# EAGLE library part FT2232D-REEL (library NetGeeks)
Dual Ch. IC UART/FIFO/JTAG/SPI/I2C Reel FTDI Chip FT2232D-REEL, USB Controller, 4-channel, 3MBd, USB 1.1, USB 2.0, 5 V, 48-Pin LQFP Source: Datasheet <https://componentsearchengine.com/Datasheets/2/FT2232D-REEL.pdf>
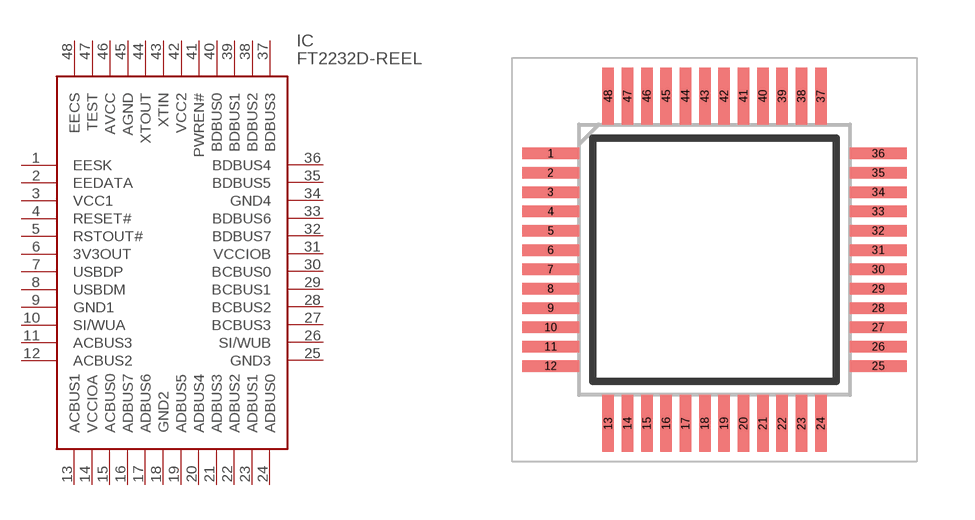
[diagram p6: symbol with the pads of QFP50P900X900X160-48N; footprint QFP50P900X900X160-48N]

Designator prefix IC

## FT2232D-REEL (Allied_Number: 70403918; Allied_Price/Stock: https://www.alliedelec.com/ftdi-ft2232d-reel/70403918/; Arrow_Part_Number: FT2232D-REEL; Arrow_Price/Stock: http://www.arrow.com/en/products/ft2232d-reel/future-technology-devices-international; Description: Dual Ch. IC UART/FIFO/JTAG/SPI/I2C Reel FTDI Chip FT2232D-REEL, USB Controller, 4-channel, 3MBd, USB 1.1, USB 2.0, 5 V, 48-Pin LQFP; Height: 1.6mm; Manufacturer_Name: FTDI Chip; Manufacturer_Part_Number: FT2232D-REEL; RS_Part_Number: 8888707; RS_Price/Stock: http://uk.rs-online.com/web/p/products/8888707)  [QFP50P900X900X160-48N]
1  EESK  out
2  EEDATA
3  VCC1  pwr
4  RESET#  in
5  RSTOUT#  out
6  3V3OUT  out
7  USBDP
8  USBDM
9  GND1  pwr
10  SI/WUA
11  ACBUS3
12  ACBUS2
13  ACBUS1
14  VCCIOA  pwr
15  ACBUS0
16  ADBUS7
17  ADBUS6
18  GND2  pwr
19  ADBUS5
20  ADBUS4
21  ADBUS3
22  ADBUS2
23  ADBUS1
24  ADBUS0
25  GND3  pwr
26  SI/WUB
27  BCBUS3
28  BCBUS2
29  BCBUS1
30  BCBUS0
31  VCCIOB  pwr
32  BDBUS7
33  BDBUS6
34  GND4  pwr
35  BDBUS5
36  BDBUS4
37  BDBUS3
38  BDBUS2
39  BDBUS1
40  BDBUS0
41  PWREN#  out
42  VCC2  pwr
43  XTIN  in
44  XTOUT  out
45  AGND  pwr
46  AVCC  pwr
47  TEST  in
48  EECS

## Footprint QFP50P900X900X160-48N (pad centres in mm)
48LD Lead Free LQFP
smd 1.475 x 0.3: 1 -4.238,2.75; 2 -4.238,2.25; 3 -4.238,1.75; 4 -4.238,1.25; 5 -4.238,0.75; 6 -4.238,0.25; 7 -4.238,-0.25; 8 -4.238,-0.75; 9 -4.238,-1.25; 10 -4.238,-1.75; 11 -4.238,-2.25; 12 -4.238,-2.75; 25 4.238,-2.75; 26 4.238,-2.25; 27 4.238,-1.75; 28 4.238,-1.25; 29 4.238,-0.75; 30 4.238,-0.25; 31 4.238,0.25; 32 4.238,0.75; 33 4.238,1.25; 34 4.238,1.75; 35 4.238,2.25; 36 4.238,2.75
smd 0.3 x 1.475: 13 -2.75,-4.238; 14 -2.25,-4.238; 15 -1.75,-4.238; 16 -1.25,-4.238; 17 -0.75,-4.238; 18 -0.25,-4.238; 19 0.25,-4.238; 20 0.75,-4.238; 21 1.25,-4.238; 22 1.75,-4.238; 23 2.25,-4.238; 24 2.75,-4.238; 37 2.75,4.238; 38 2.25,4.238; 39 1.75,4.238; 40 1.25,4.238; 41 0.75,4.238; 42 0.25,4.238; 43 -0.25,4.238; 44 -0.75,4.238; 45 -1.25,4.238; 46 -1.75,4.238; 47 -2.25,4.238; 48 -2.75,4.238